# Altium integrated library CC_SOC DEBUGGER.IntLib: 13 symbols
Pins are listed as number, name and electrical type; pins without a type are passive.

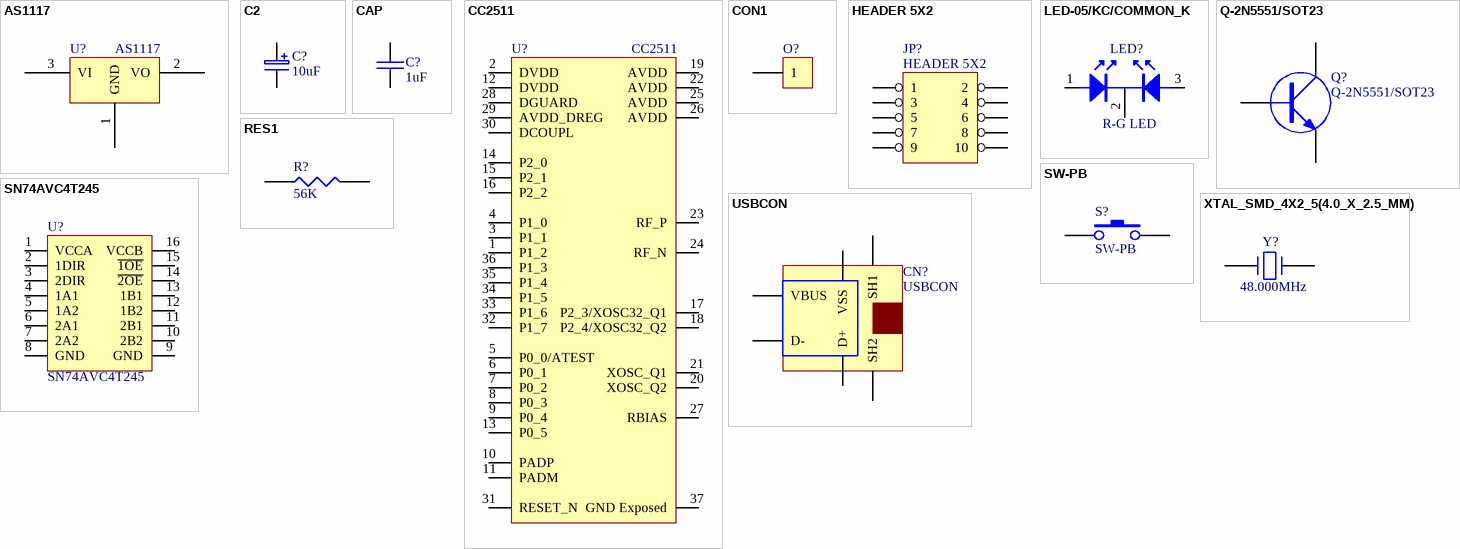
[diagram p0: symbols AS1117 to XTAL_SMD_4X2_5(4.0_X_2.5_MM)]

## AS1117
designator U?
footprint SOT-89
footprint SOT-223
pins: 1 GND, 2 VO, 3 VI

## C2
designator C?, comment 10uF
footprint RB.1/.2
footprint RB.2/.4
footprint RB.3/.6
footprint 1206
pins: 1 +, 2 -

## CAP
designator C?, comment 1uF
Capacitor
footprint 0805
pins: 1, 2

## CC2511
designator U?
footprint CC2511
pins: 1 P1_2, 2 DVDD, 3 P1_1, 4 P1_0, 5 P0_0/ATEST, 6 P0_1, 7 P0_2, 8 P0_3, 9 P0_4, 10 PADP, 11 PADM, 12 DVDD, 13 P0_5, 14 P2_0, 15 P2_1, 16 P2_2, 17 P2_3/XOSC32_Q1, 18 P2_4/XOSC32_Q2, 19 AVDD, 20 XOSC_Q2, 21 XOSC_Q1, 22 AVDD, 23 RF_P, 24 RF_N, 25 AVDD, 26 AVDD, 27 RBIAS, 28 DGUARD, 29 AVDD_DREG, 30 DCOUPL, 31 RESET_N, 32 P1_7, 33 P1_6, 34 P1_5, 35 P1_4, 36 P1_3, 37 GND Exposed

## CON1
designator O?
Connector
footprint HOLE3_1
pins: 1

## HEADER 5X2
designator JP?
footprint HDR5X2-LP
pins: 1, 2, 3, 4, 5, 6, 7, 8, 9, 10

## LED-05/KC/COMMON_K
designator LED?, comment R-G LED
312; Text Field1: LED/R-G/10/H/630-560/05/KC/C; Text Field3: red-green; PartNumber: *; PartDesc: *; Value: *; Tolerance: *
footprint LED-05/kc/common
footprint LED-05/kc/K
footprint LED-05/KC/C
pins: 1 A, 2 K, 3 A

## Q-2N5551/SOT23
designator Q?
311000001; Text Field1: Q-2N5551/SOT23/PHILIPS; Text Field2: 2N5551/NPN/SOT23; PartNumber: *; PartDesc: *; Value: *; Tolerance: *
footprint sot23
pins: 1 B, 2 E, 3 C

## RES1
designator R?, comment 56K
footprint 0805
pins: 1, 2

## SN74AVC4T245
designator U?
footprint SSO16/0.65/5.8
pins: 1 VCCA, 2 1DIR, 3 2DIR, 4 1A1, 5 1A2, 6 2A1, 7 2A2, 8 GND, 9 GND, 10 2B2, 11 2B1, 12 1B2, 13 1B1, 14 ~{2OE}, 15 ~{1OE}, 16 VCCB

## SW-PB
designator S?
footprint B3F-31XX
pins: 1, 2

## USBCON
designator CN?
Connector
footprint USB-B
pins: D+, D-, SH1, SH2, VBUS, VSS

## XTAL_SMD_4X2_5(4.0_X_2.5_MM)
designator Y?, comment 48.000MHz
footprint XTAL_SMD_4X2_5(4.0_X_2.5_MM)
pins: 1, 3
2 alternate drawings of the same symbol